# EAGLE library part ATSAMD21E (library we-chip)
Microchip ATSAMD21Exx ARM Cortex-M0+ (32 pin) ...18 - 256kb Flash 32kb RAM ...17 - 128kb Flash 16kb RAM ...16 - 64kb Flash 8kb RAM ...15 - 32kb Flash 4kb RAM
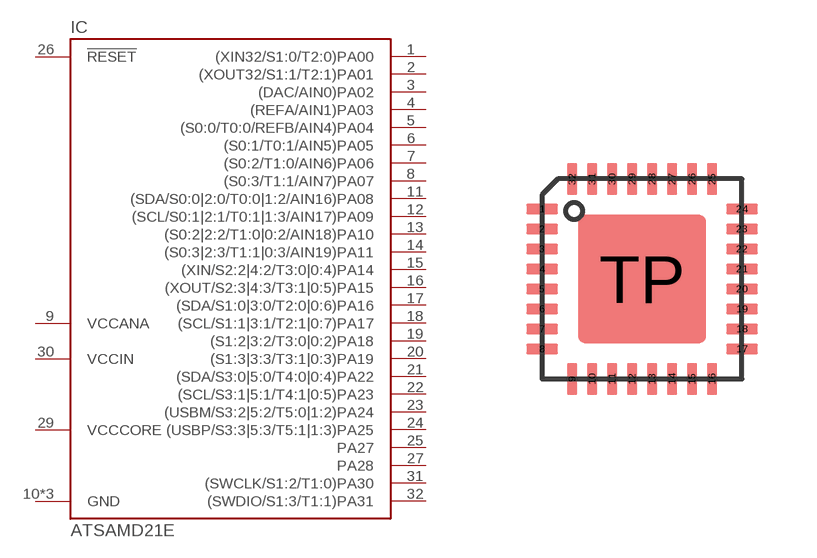
[diagram p45: symbol with the pads of QFN32-PAD; footprint QFN32-PAD]

Designator prefix IC

## ATSAMD21E18A-MU  [QFN32-PAD]
1  (XIN32/S1:0/T2:0)PA00
2  (XOUT32/S1:1/T2:1)PA01
3  (DAC/AIN0)PA02
4  (REFA/AIN1)PA03
5  (S0:0/T0:0/REFB/AIN4)PA04
6  (S0:1/T0:1/AIN5)PA05
7  (S0:2/T1:0/AIN6)PA06
8  (S0:3/T1:1/AIN7)PA07
9  VCCANA  pwr
10  GND  pwr
11  (SDA/S0:0|2:0/T0:0|1:2/AIN16)PA08
12  (SCL/S0:1|2:1/T0:1|1:3/AIN17)PA09
13  (S0:2|2:2/T1:0|0:2/AIN18)PA10
14  (S0:3|2:3/T1:1|0:3/AIN19)PA11
15  (XIN/S2:2|4:2/T3:0|0:4)PA14
16  (XOUT/S2:3|4:3/T3:1|0:5)PA15
17  (SDA/S1:0|3:0/T2:0|0:6)PA16
18  (SCL/S1:1|3:1/T2:1|0:7)PA17
19  (S1:2|3:2/T3:0|0:2)PA18
20  (S1:3|3:3/T3:1|0:3)PA19
21  (SDA/S3:0|5:0/T4:0|0:4)PA22
22  (SCL/S3:1|5:1/T4:1|0:5)PA23
23  (USBM/S3:2|5:2/T5:0|1:2)PA24
24  (USBP/S3:3|5:3/T5:1|1:3)PA25
25  PA27
26  !RESET  in
27  PA28
28  GND  pwr
29  VCCCORE  pwr
30  VCCIN  pwr
31  (SWCLK/S1:2/T1:0)PA30
32  (SWDIO/S1:3/T1:1)PA31
TP  GND  pwr

## Footprint QFN32-PAD (pad centres in mm)
smd 0.8 x 0.26: 1 -2.5,1.75; 2 -2.5,1.25; 3 -2.5,0.75; 4 -2.5,0.25; 5 -2.5,-0.25; 6 -2.5,-0.75; 7 -2.5,-1.25; 8 -2.5,-1.75; 17 2.5,-1.75; 18 2.5,-1.25; 19 2.5,-0.75; 20 2.5,-0.25; 21 2.5,0.25; 22 2.5,0.75; 23 2.5,1.25; 24 2.5,1.75
smd 0.26 x 0.8: 9 -1.75,-2.5; 10 -1.25,-2.5; 11 -0.75,-2.5; 12 -0.25,-2.5; 13 0.25,-2.5; 14 0.75,-2.5; 15 1.25,-2.5; 16 1.75,-2.5; 25 1.75,2.5; 26 1.25,2.5; 27 0.75,2.5; 28 0.25,2.5; 29 -0.25,2.5; 30 -0.75,2.5; 31 -1.25,2.5; 32 -1.75,2.5
smd 3.2 x 3.2: TP 0,0